# Altium integrated library Microchip Mixed Signal.IntLib: 1063 symbols (part 28 of 28)
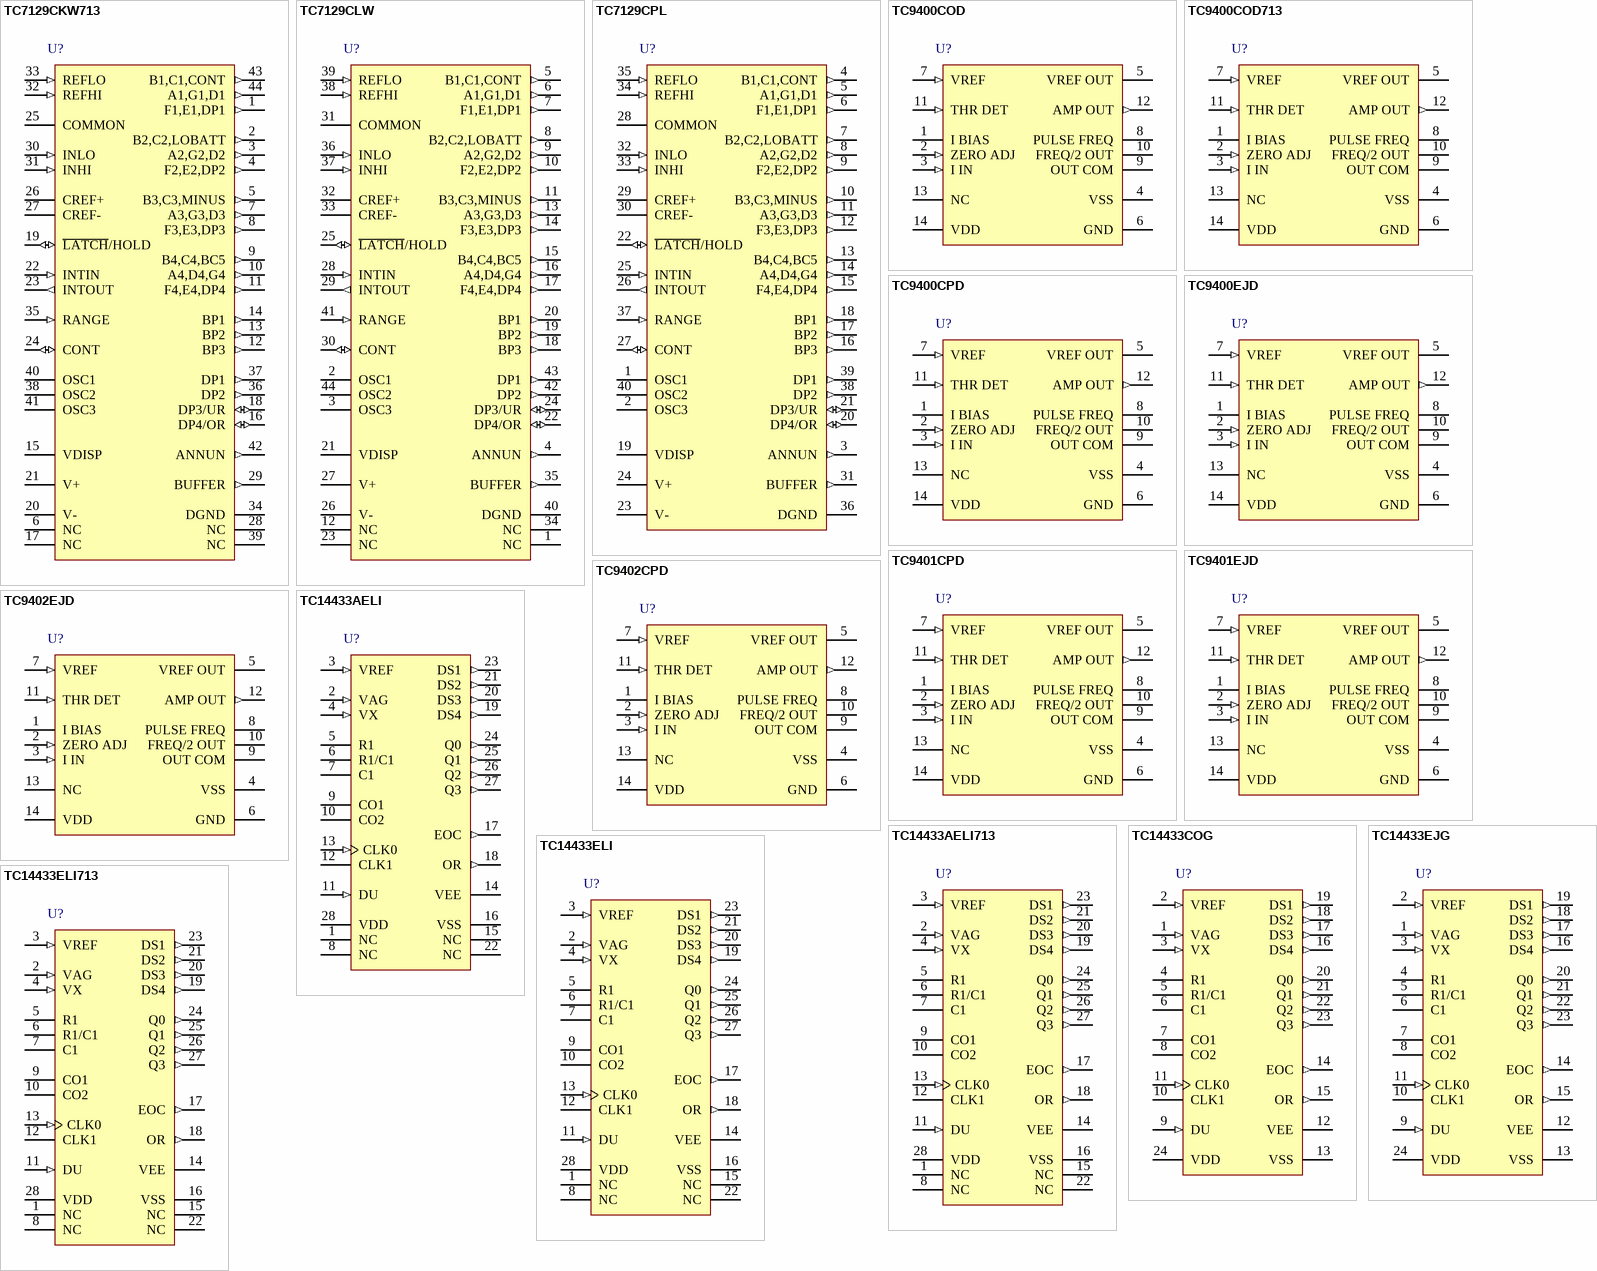
[diagram p58: symbols TC7129CKW713 to TC14433ELI713]

## TC14433AELI
designator U?
3-1/2 Digit, Analog-to-Digital Converter, 28-Pin PLCC, Extended Temperature; Published: 29-Jan-2009; DatasheetVersion: revD, Jul-2008; PackageVersion: revBB, Aug-2009; PackageReference: PLCC-LI28; Publisher: Altium Limited; PackageDescription: 28-Lead Plastic Leaded Chip Carrier (LI) - Square [PLCC]; Supplier 1: Digi-Key; Supplier Part Number 1: TC14433AELI-ND; Code_IPC: PLCC-28; ComponentLink1Description: Datasheet; ComponentLink1URL: http://ww1.microchip.com/downloads/en/DeviceDoc/21394d.pdf; ComponentLink2Description: Packaging Specification; ComponentLink2URL: http://www.microchip.com/stellent/groups/techpub_sg/documents/packagingspec/en012702.pdf; ComponentLink3Description: Microchip.com Home; ComponentLink3URL: http://www.microchip.com/
footprint PLCC-LI28_N (Leaded Chip Carrier, 28-Leads, Body 11.5x11.5mm, Pitch 1.27mm, IPC Medium Density)
footprint PLCC-LI28_L (Leaded Chip Carrier, 28-Leads, Body 11.5x11.5mm, Pitch 1.27mm, IPC High Density)
footprint PLCC-LI28_M (Leaded Chip Carrier, 28-Leads, Body 11.5x11.5mm, Pitch 1.27mm, IPC Low Density)
pins: 1 NC, 2 VAG (in), 3 VREF (in), 4 VX (in), 5 R1, 6 R1/C1, 7 C1, 8 NC, 9 CO1, 10 CO2, 11 DU (in), 12 CLK1, 13 CLK0 (in), 14 VEE (power), 15 NC, 16 VSS (power), 17 EOC (out), 18 OR (out), 19 DS4 (out), 20 DS3 (out), 21 DS2 (out), 22 NC, 23 DS1 (out), 24 Q0 (out), 25 Q1 (out), 26 Q2 (out), 27 Q3 (out), 28 VDD (power)

## TC14433AELI713
designator U?
3-1/2 Digit, Analog-to-Digital Converter, 28-Pin PLCC, Extended Temperature, Tape and Reel; Published: 29-Jan-2009; DatasheetVersion: revD, Jul-2008; PackageVersion: revBB, Aug-2009; PackageReference: PLCC-LI28; Publisher: Altium Limited; PackageDescription: 28-Lead Plastic Leaded Chip Carrier (LI) - Square [PLCC]; Supplier 1: Digi-Key; Supplier Part Number 1: TC14433AELI713-ND; Code_IPC: PLCC-28; ComponentLink1Description: Datasheet; ComponentLink1URL: http://ww1.microchip.com/downloads/en/DeviceDoc/21394d.pdf; ComponentLink2Description: Packaging Specification; ComponentLink2URL: http://www.microchip.com/stellent/groups/techpub_sg/documents/packagingspec/en012702.pdf; ComponentLink3Description: Microchip.com Home; ComponentLink3URL: http://www.microchip.com/
footprint PLCC-LI28_N (Leaded Chip Carrier, 28-Leads, Body 11.5x11.5mm, Pitch 1.27mm, IPC Medium Density)
footprint PLCC-LI28_L (Leaded Chip Carrier, 28-Leads, Body 11.5x11.5mm, Pitch 1.27mm, IPC High Density)
footprint PLCC-LI28_M (Leaded Chip Carrier, 28-Leads, Body 11.5x11.5mm, Pitch 1.27mm, IPC Low Density)
pins: 1 NC, 2 VAG (in), 3 VREF (in), 4 VX (in), 5 R1, 6 R1/C1, 7 C1, 8 NC, 9 CO1, 10 CO2, 11 DU (in), 12 CLK1, 13 CLK0 (in), 14 VEE (power), 15 NC, 16 VSS (power), 17 EOC (out), 18 OR (out), 19 DS4 (out), 20 DS3 (out), 21 DS2 (out), 22 NC, 23 DS1 (out), 24 Q0 (out), 25 Q1 (out), 26 Q2 (out), 27 Q3 (out), 28 VDD (power)

## TC14433COG
designator U?
3-1/2 Digit, Analog-to-Digital Converter, 24-Pin SOIC 300mil, Commercial Temperature; Published: 29-Jan-2009; DatasheetVersion: revD, Jul-2008; PackageVersion: revBB, Aug-2009; PackageReference: SOIC-OG24; Publisher: Altium Limited; PackageDescription: 24-Lead Plastic Small Outline (OG) - Wide 7.50mm Body [SOIC]; Supplier 1: Digi-Key; Supplier Part Number 1: TC14433COG-ND; Code_JEDEC: MS-013-AD; ComponentLink1Description: Datasheet; ComponentLink1URL: http://ww1.microchip.com/downloads/en/DeviceDoc/21394d.pdf; ComponentLink2Description: Packaging Specification; ComponentLink2URL: http://www.microchip.com/stellent/groups/techpub_sg/documents/packagingspec/en012702.pdf; ComponentLink3Description: Microchip.com Home; ComponentLink3URL: http://www.microchip.com/
footprint SOIC-OG24_N (SOIC, 24-Leads, Body 15.4x7.5mm, Pitch 1.27mm, IPC Medium Density)
footprint SOIC-OG24_L (SOIC, 24-Leads, Body 15.4x7.5mm, Pitch 1.27mm, IPC High Density)
footprint SOIC-OG24_M (SOIC, 24-Leads, Body 15.4x7.5mm, Pitch 1.27mm, IPC Low Density)
pins: 1 VAG (in), 2 VREF (in), 3 VX (in), 4 R1, 5 R1/C1, 6 C1, 7 CO1, 8 CO2, 9 DU (in), 10 CLK1, 11 CLK0 (in), 12 VEE (power), 13 VSS (power), 14 EOC (out), 15 OR (out), 16 DS4 (out), 17 DS3 (out), 18 DS2 (out), 19 DS1 (out), 20 Q0 (out), 21 Q1 (out), 22 Q2 (out), 23 Q3 (out), 24 VDD (power)

## TC14433EJG
designator U?
3-1/2 Digit, Analog-to-Digital Converter, 24-Pin CERDIP, ExtendedTemperature; Published: 2-Dec-2009; DatasheetVersion: revD, Jul-2008; PackageVersion: revBB, Aug-2009; PackageReference: CERDIP600-JG24; Publisher: Altium Limited; PackageDescription: 24-Lead Ceramic Dual In-Line (JG) - 600mil Body [CERDIP]; Supplier 1: Digi-Key; Supplier Part Number 1: TC14433EJG-ND; ComponentLink1Description: Datasheet; ComponentLink1URL: http://ww1.microchip.com/downloads/en/DeviceDoc/21394d.pdf; ComponentLink2Description: Packaging Specification; ComponentLink2URL: http://www.microchip.com/stellent/groups/techpub_sg/documents/packagingspec/en012702.pdf; ComponentLink3Description: Microchip.com Home; ComponentLink3URL: http://www.microchip.com/
footprint CERDIP600-JG24 (DIP, 24-Leads, Row Spacing 15.24mm, Pitch 2.54mm, Body 31.9x13.3mm)
pins: 1 VAG (in), 2 VREF (in), 3 VX (in), 4 R1, 5 R1/C1, 6 C1, 7 CO1, 8 CO2, 9 DU (in), 10 CLK1, 11 CLK0 (in), 12 VEE (power), 13 VSS (power), 14 EOC (out), 15 OR (out), 16 DS4 (out), 17 DS3 (out), 18 DS2 (out), 19 DS1 (out), 20 Q0 (out), 21 Q1 (out), 22 Q2 (out), 23 Q3 (out), 24 VDD (power)

## TC14433ELI
designator U?
3-1/2 Digit, Analog-to-Digital Converter, 28-Pin PLCC, Extended Temperature; Published: 29-Jan-2009; DatasheetVersion: revD, Jul-2008; PackageVersion: revBB, Aug-2009; PackageReference: PLCC-LI28; Publisher: Altium Limited; PackageDescription: 28-Lead Plastic Leaded Chip Carrier (LI) - Square [PLCC]; Supplier 1: Digi-Key; Supplier Part Number 1: TC14433ELI-ND; Code_IPC: PLCC-28; ComponentLink1Description: Datasheet; ComponentLink1URL: http://ww1.microchip.com/downloads/en/DeviceDoc/21394d.pdf; ComponentLink2Description: Packaging Specification; ComponentLink2URL: http://www.microchip.com/stellent/groups/techpub_sg/documents/packagingspec/en012702.pdf; ComponentLink3Description: Microchip.com Home; ComponentLink3URL: http://www.microchip.com/
footprint PLCC-LI28_N (Leaded Chip Carrier, 28-Leads, Body 11.5x11.5mm, Pitch 1.27mm, IPC Medium Density)
footprint PLCC-LI28_L (Leaded Chip Carrier, 28-Leads, Body 11.5x11.5mm, Pitch 1.27mm, IPC High Density)
footprint PLCC-LI28_M (Leaded Chip Carrier, 28-Leads, Body 11.5x11.5mm, Pitch 1.27mm, IPC Low Density)
pins: 1 NC, 2 VAG (in), 3 VREF (in), 4 VX (in), 5 R1, 6 R1/C1, 7 C1, 8 NC, 9 CO1, 10 CO2, 11 DU (in), 12 CLK1, 13 CLK0 (in), 14 VEE (power), 15 NC, 16 VSS (power), 17 EOC (out), 18 OR (out), 19 DS4 (out), 20 DS3 (out), 21 DS2 (out), 22 NC, 23 DS1 (out), 24 Q0 (out), 25 Q1 (out), 26 Q2 (out), 27 Q3 (out), 28 VDD (power)

## TC14433ELI713
designator U?
3-1/2 Digit, Analog-to-Digital Converter, 28-Pin PLCC, Extended Temperature, Tape and Reel; Published: 29-Jan-2009; DatasheetVersion: revD, Jul-2008; PackageVersion: revBB, Aug-2009; PackageReference: PLCC-LI28; Publisher: Altium Limited; PackageDescription: 28-Lead Plastic Leaded Chip Carrier (LI) - Square [PLCC]; Supplier 1: Digi-Key; Supplier Part Number 1: TC14433ELI713-ND; Code_IPC: PLCC-28; ComponentLink1Description: Datasheet; ComponentLink1URL: http://ww1.microchip.com/downloads/en/DeviceDoc/21394d.pdf; ComponentLink2Description: Packaging Specification; ComponentLink2URL: http://www.microchip.com/stellent/groups/techpub_sg/documents/packagingspec/en012702.pdf; ComponentLink3Description: Microchip.com Home; ComponentLink3URL: http://www.microchip.com/
footprint PLCC-LI28_N (Leaded Chip Carrier, 28-Leads, Body 11.5x11.5mm, Pitch 1.27mm, IPC Medium Density)
footprint PLCC-LI28_L (Leaded Chip Carrier, 28-Leads, Body 11.5x11.5mm, Pitch 1.27mm, IPC High Density)
footprint PLCC-LI28_M (Leaded Chip Carrier, 28-Leads, Body 11.5x11.5mm, Pitch 1.27mm, IPC Low Density)
pins: 1 NC, 2 VAG (in), 3 VREF (in), 4 VX (in), 5 R1, 6 R1/C1, 7 C1, 8 NC, 9 CO1, 10 CO2, 11 DU (in), 12 CLK1, 13 CLK0 (in), 14 VEE (power), 15 NC, 16 VSS (power), 17 EOC (out), 18 OR (out), 19 DS4 (out), 20 DS3 (out), 21 DS2 (out), 22 NC, 23 DS1 (out), 24 Q0 (out), 25 Q1 (out), 26 Q2 (out), 27 Q3 (out), 28 VDD (power)